# EAGLE library part LMP91000 (library BaseApp)
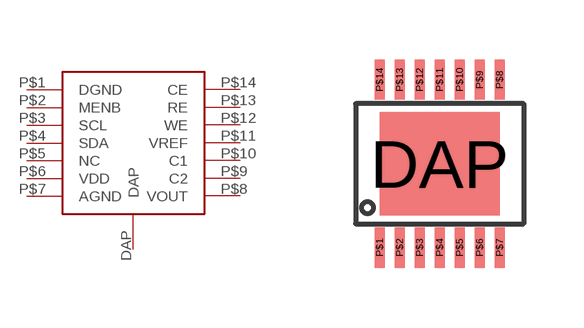
[diagram p92: symbol with the pads of WSON-14; footprint WSON-14]

Designator prefix -

## LMP91000  [WSON-14]
DAP  DAP
P$1  DGND
P$2  MENB
P$3  SCL
P$4  SDA
P$5  NC
P$6  VDD
P$7  AGND
P$8  VOUT
P$9  C2
P$10  C1
P$11  VREF
P$12  WE
P$13  RE
P$14  CE

## Footprint WSON-14 (pad centres in mm)
smd 3 x 2.6: DAP 0,0
smd 0.25 x 1: P$1 -1.5,-2.1; P$2 -1,-2.1; P$3 -0.5,-2.1; P$4 0,-2.1; P$5 0.5,-2.1; P$6 1,-2.1; P$7 1.5,-2.1; P$8 1.5,2.1; P$9 1,2.1; P$10 0.5,2.1; P$11 0,2.1; P$12 -0.5,2.1; P$13 -1,2.1; P$14 -1.5,2.1